# Altium schematic symbol library BatteryPSU-parts.SchLib: 30 symbols
Pins are listed as number, name and electrical type; pins without a type are passive.

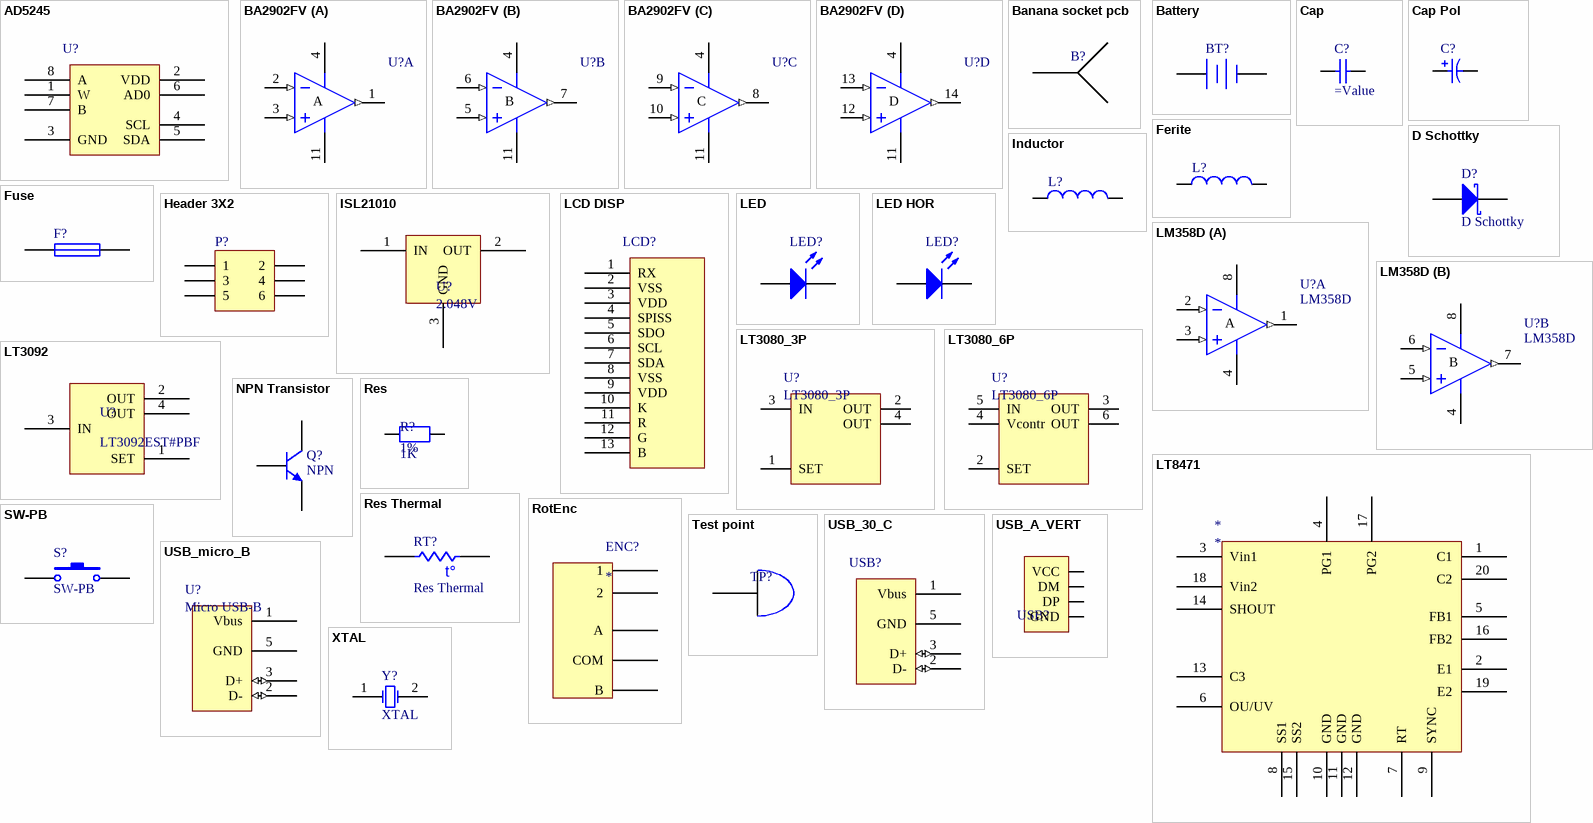
[diagram p0: symbols AD5245 to XTAL]

## AD5245
designator U?  (value not drawn)
DigPot; Manufacturer: Analog Devices Inc; Manufacturer Part Number: AD5245BRJZ50-RL7; Configuration: Potentiometer; Number of Circuits: 1; Number of Taps: 256; Resistance (Ohms): 50k; Interface: I²C; Memory Type: Volatile; Voltage - Supply: 2.7 V ~ 5.5 V; Tolerance: ±30%; Temperature Coefficient (Typ): 45 ppm/°C; Resistance - Wiper (Ohms) (Typ): 50; Supplier 1: Digi-Key; RoHS: RoHS Compliant; Category: Integrated Circuits (ICs); Stock 1: 2986; Pricing 1: 1=1.96, 10=1.766, 25=1.582, 100=1.4226, 250=1.26316, 500=1.10372, 1000=0.91364 (EUR); Packaging: Cut Tape (CT); Taper: Linear; Features: Selectable Address; Operating Temperature: -40°C ~ 125°C; Package / Case: SOT-23-8; Supplier Device Package: SOT-23-8; ComponentLink1URL: http://www.analog.com/media/en/technical-documentation/data-sheets/AD5245.pdf; ComponentLink1Description: http://www.analog.com/media/en/technical-documentation/data-sheets/AD5245.pdf; Supplier Part Number 1: AD5245BRJZ50-RL7CT-ND
footprint SOT-23-8
pins: 1 W, 2 VDD, 3 GND, 4 SCL, 5 SDA, 6 AD0, 7 B, 8 A

## BA2902FV
designator U?
Quad Low-Power Operational Amplifier; Manufacturer: Rohm Semiconductor; Manufacturer Part Number: BA2902FV-E2; Amplifier Type: General Purpose; Number of Circuits: 4; Slew Rate: 0.2 V/µs; Gain Bandwidth Product: 500kHz; Current - Input Bias: 20nA; Voltage - Input Offset: 2mV; Current - Supply: 700µA; Current - Output / Channel: 30mA; Voltage - Supply, Single/Dual (±): 3 V ~ 32 V, ±1.5 V ~ 16 V; Supplier 1: Digi-Key; RoHS: RoHS Compliant; Category: Integrated Circuits (ICs); Stock 1: 9768; Pricing 1: 1=0.87, 10=0.76, 25=0.6724, 100=0.586, 250=0.51012, 500=0.4342, 1000=0.34779 (EUR); Packaging: Cut Tape (CT); Output Type: -; -3db Bandwidth: -; Operating Temperature: -40°C ~ 125°C; Mounting Type: Surface Mount; Package / Case: 14-LSSOP (0.173", 4.40mm Width); Supplier Device Package: 14-SSOP; ComponentLink1URL: http://rohmfs.rohm.com/en/products/databook/datasheet/ic/amp_linear/opamp/ba10358f-e.pdf; ComponentLink1Description: http://rohmfs.rohm.com/en/products/databook/datasheet/ic/amp_linear/opamp/ba10358f-e.pdf; Supplier Part Number 1: BA2902FV-E2CT-ND
simulation model LM358 (SUBCKT)
footprint TSSOP14_N (TSOP, 14-Leads, Body 5x4.4mm, Pitch 0.65mm, IPC Medium Density)
part A pins: 1 OUT1 (out), 2 -IN1 (in), 3 +IN1 (in), 4 VCC (power), 11 VEE
part B pins: 4 VCC (power), 5 +IN2 (in), 6 -IN2 (in), 7 OUT2 (out), 11 VEE
part C pins: 4 VCC (power), 8 OUT3 (out), 9 -IN3 (in), 10 +IN3 (in), 11 VEE
part D pins: 4 VCC (power), 11 VEE, 12 +IN4 (in), 13 -IN4 (in), 14 OUT4 (out)
part A text: A
part B text: B
part C text: C
part D text: D

## Banana socket pcb
designator B?  (value not drawn)
2.54mm skrew terminal; Supplier 1: Farnell; Supplier Part Number 1: 1854508
footprint PCB Banana jack red (Cliff 4mm Panel Socket S16N-PC)
footprint PCB Banana jack black (Cliff 4mm Panel Socket S16N-PC)
pins: 1

## Battery
designator BT?  (value not drawn)
Multicell Battery; Manufacturer: MPD (Memory Protection Devices); Manufacturer Part Number: BK-18650-PC8; Battery Type, Function: Cylindrical, Holder; Style: Holder (Open); Battery Cell Size: 18650; Number of Cells: 4; Published: 24-Mar-1999; LatestRevisionDate: 17-Jul-2002; LatestRevisionNote: Re-released for DXP Platform.; PackageReference: BAT-2; Publisher: Altium Limited; PackageDescription: Battery; 2 Leads; Supplier 1: Digi-Key; RoHS: RoHS Compliant; Category: Battery Products; Stock 1: 771; Pricing 1: 1=5.87, 10=5.436, 100=4.8966, 500=4.18678, 1000=3.7136 (EUR); Battery Series: -; Mounting Type: PCB, Through Hole; Termination Style: PC Pin; Height Above Board: 0.848" (21.54mm); Operating Temperature: -; ComponentLink1URL: http://www.memoryprotectiondevices.com/datasheets/BK-18650-PC8-datasheet.pdf; ComponentLink1Description: http://www.memoryprotectiondevices.com/datasheets/BK-18650-PC8-datasheet.pdf; Supplier Part Number 1: BK-18650-PC8-ND
footprint Quad battery holder (Quad Li-Ion 18650)
pins: 1 +, 2 -

## Cap
designator C?
Capacitor
simulation model CAP (Capacitor)
signal-integrity model Cap
footprint 1210_N CAP (Chip Capacitor, Body 3.2x2.5mm, IPC Medium Density)
pins: 1, 2

## Cap Pol
designator C?
Polarized Capacitor
footprint CAP SMD (C) (Panasonic ZA SMD Electrolytic-hybrid cap (size C))
simulation model CAP (Capacitor)
signal-integrity model Cap Pol
footprint CAP SMD (F) (Panasonic ZA SMD Electrolytic-hybrid cap (size C))
pins: 1 "Positive", 2 "Negative"
1 alternate drawing of the same symbol

## D Schottky
designator D?
Schottky Diode; Manufacturer: Micro Commercial Co; Manufacturer Part Number: SK33A-TP; Voltage - DC Reverse (Vr) (Max): 30V; Current - Average Rectified (Io): 3A; Voltage - Forward (Vf) (Max) @ If: 500mV @ 3A; Speed: Fast Recovery =< 500ns, > 200mA (Io); Current - Reverse Leakage @ Vr: 500µA @ 30V; Capacitance @ Vr, F: 250pF @ 4V, 1MHz; Published: 8-Jun-2000; LatestRevisionDate: 17-Jul-2002; LatestRevisionNote: Re-released for DXP Platform.; PackageReference: SMB; Publisher: Altium Limited; PackageDescription: DO-214-AA/SMB; 2 C-Bend Leads; Body 5.3 x 3.6 mm, inc. leads (LxW); Code_JEDEC: DO-214-AA; Supplier 1: Digi-Key; RoHS: RoHS Compliant; Category: Discrete Semiconductor Products; Stock 1: 4384; Pricing 1: 1=0.57, 10=0.403, 25=0.3316, 100=0.2649, 250=0.19304, 500=0.15676, 1000=0.1205 (EUR); Packaging: Cut Tape (CT); Diode Type: Schottky; Reverse Recovery Time (trr): -; Mounting Type: Surface Mount; Package / Case: DO-214AC, SMA; Supplier Device Package: DO-214AC (HSMA); Operating Temperature - Junction: -50°C ~ 125°C; ComponentLink1URL: http://www.mccsemi.com/up_pdf/SK32A-SK310A(HSMA).PDF; ComponentLink1Description: http://www.mccsemi.com/up_pdf/SK32A-SK310A(HSMA).PDF; Supplier Part Number 1: SK33A-TPCT-ND
simulation model SKYDIODE (Diode)
signal-integrity model D Schottky
footprint DO-214AC, SMA (DO-214AC/SMA; 2 C-Bend Leads; Body 5.69 x 2.84mm, inc. leads (LxW))
pins: 1 A, 2 K

## Ferite
designator L?, comment 200 Ohm @ 100MHz  (value not drawn)
Ferrite Bead; Manufacturer: Laird-Signal Integrity Products; Manufacturer Part Number: LI0805G201R-10; Current Rating: 700mA; DC Resistance (DCR): 300 mOhm Max; Filter Type: Differential Mode - Single; Supplier 1: Digi-Key; RoHS: RoHS Compliant; Category: Filters; Stock 1: 42936; Pricing 1: 1=0.1, 10=0.065, 25=0.058, 50=0.0524, 100=0.0384, 250=0.02796, 500=0.02564, 1000=0.02213 (EUR); Packaging: Cut Tape (CT); Impedance @ Frequency: 200 Ohm @ 100MHz; Package / Case: 0805 (2012 Metric); Mounting Type: Surface Mount; Height (Max): 0.043" (1.10mm); Size / Dimension: 0.079" L x 0.049" W (2.00mm x 1.25mm); ComponentLink1URL: http://media.digikey.com/pdf/Data%20Sheets/Steward%20PDFs/FerriteEMI_ChipBeads_br.pdf; ComponentLink1Description: http://media.digikey.com/pdf/Data%20Sheets/Steward%20PDFs/FerriteEMI_ChipBeads_br.pdf; Supplier Part Number 1: 240-2549-1-ND
simulation model INDUCTOR (Inductor)
signal-integrity model Inductor
footprint 0805_N_FER (Chip Ferrite SMD, Body 2.0x1.25mm)
pins: 1, 2

## Fuse
designator F?, comment 5A  (value not drawn)
Resetable fuse, SMD; Manufacturer: Bel Fuse Inc; Manufacturer Part Number: 0ZCG0260FF2C; Voltage - Max: 6V; Current - Max: 100A; Current - Hold (Ih) (Max): 2.6A; R Min/Max: 0.015 ~ 0.047 Ohm; Time to Trip: 2.5s; Supplier 1: Digi-Key; RoHS: RoHS Compliant; Category: Circuit Protection; Stock 1: 8506; Pricing 1: 1=0.17, 10=0.162, 25=0.15, 100=0.1348, 250=0.12008, 500=0.10006, 1000=0.09483 (EUR); Packaging: Cut Tape (CT); Current - Trip (It): 5A; Package / Case: 1812 (4532 Metric), Concave; ComponentLink1URL: http://www.belfuse.com/pdfs/0ZCG.pdf; ComponentLink1Description: http://www.belfuse.com/pdfs/0ZCG.pdf; Supplier Part Number 1: 507-1778-1-ND
simulation model FUSE (Spice Subcircuit)
footprint 2920_N FUSE (Resetable fuse, SMD)
footprint 1812_N_FUSE (PTC Fuse)
pins: 1, 2

## Header 3X2
designator P?  (value not drawn)
Header, 3-Pin, Dual row; Manufacturer: FCI; Manufacturer Part Number: 95278-101A06LF; Connector Type: Header, Unshrouded; Number of Positions: 6; Number of Positions Loaded: All; Pitch: 0.100" (2.54mm); Supplier 1: Digi-Key; RoHS: RoHS Compliant; Category: Connectors, Interconnects; Stock 1: 6353; Pricing 1: 1=1.11, 10=0.971, 25=0.914, 100=0.8381 (EUR); Packaging: Cut Tape (CT); Contact Type: Male Pin; Number of Rows: 2; Row Spacing: 0.100" (2.54mm); Contact Mating Length: 0.232" (5.90mm); Mounting Type: Surface Mount; Termination: Solder; Fastening Type: -; Features: -; Contact Finish: Gold, GXT™; Contact Finish Thickness: 30µin (0.76µm); Color: Black; ComponentLink1URL: http://portal.fciconnect.com/Comergent//fci/drawing/95278.pdf; ComponentLink1Description: http://portal.fciconnect.com/Comergent//fci/drawing/95278.pdf; Supplier Part Number 1: 609-3487-1-ND
signal-integrity model Connector
footprint HDR2X3 SMD
pins: 1, 2, 3, 4, 5, 6

## Inductor
designator L?
SMD Inductor; Manufacturer: Bourns Inc.; Manufacturer Part Number: SRR1005-100M; Type: Wirewound; Material - Core: Ferrite; Inductance: 10µH; Tolerance: ±20%; Current Rating: 2A; Current - Saturation: 3A; Shielding: Shielded; DC Resistance (DCR): 65 mOhm Max; Q @ Freq: 48 @ 2.52MHz; Frequency - Self Resonant: 30MHz; Frequency - Test: 1kHz; Supplier 1: Digi-Key; RoHS: RoHS Compliant; Category: Inductors, Coils, Chokes; Stock 1: 2781; Pricing 1: 1=0.88, 10=0.826, 25=0.7708, 50=0.6606, 100=0.6276, 250=0.57256 (EUR); Packaging: Cut Tape (CT); Operating Temperature: -40°C ~ 125°C; Mounting Type: Surface Mount; Package / Case: Nonstandard; Size / Dimension: 0.500" L x 0.394" W (12.70mm x 10.00mm); Height - Seated (Max): 0.205" (5.20mm); Supplier Device Package: -; ComponentLink1URL: http://www.bourns.com/data/global/pdfs/SRR1005.pdf; ComponentLink1Description: http://www.bourns.com/data/global/pdfs/SRR1005.pdf; Supplier Part Number 1: SRR1005-100MCT-ND
simulation model INDUCTOR (Inductor)
signal-integrity model Inductor
footprint CAP SMD (C) (Panasonic ZA SMD Electrolytic-hybrid cap (size C))
footprint CAP SMD (F) (Panasonic ZA SMD Electrolytic-hybrid cap (size C))
pins: 1, 2

## ISL21010
designator U?, comment 2.048V
Voltage reference; Manufacturer: Intersil; Manufacturer Part Number: ISL21010CFH320Z-TK; Reference Type: Series; Output Type: Fixed; Current - Output: 25mA; Tolerance: ±0.2%; Temperature Coefficient: 50ppm/°C; Noise - 0.1Hz to 10Hz: 58µVp-p; Noise - 10Hz to 10kHz: 26µVrms; Voltage - Input: 2.2 V ~ 5.5 V; Current - Supply: 80µA; Supplier 1: Digi-Key; RoHS: RoHS Compliant; Category: Integrated Circuits (ICs); Stock 1: 329; Pricing 1: 1=1.81, 25=1.2808, 100=1.0892 (EUR); Packaging: Cut Tape (CT); Voltage - Output (Min/Fixed): 2.048V; Voltage - Output (Max): -; Current - Cathode: -; Operating Temperature: -40°C ~ 125°C (TA); Mounting Type: Surface Mount; Package / Case: TO-236-3, SC-59, SOT-23-3; Supplier Device Package: SOT-23-3; ComponentLink1URL: http://www.intersil.com/content/dam/Intersil/documents/fn78/fn7896.pdf; ComponentLink1Description: http://www.intersil.com/content/dam/Intersil/documents/fn78/fn7896.pdf; Supplier Part Number 1: ISL21010CFH320Z-TKCT-ND
footprint SOT-23_N (SOT23, 3-Leads, Body 2.9x1.3mm, Pitch 0.95mm, Lead Span 2.5mm, IPC Medium Density)
pins: 1 IN, 2 OUT, 3 GND

## LCD DISP
designator LCD?
2x16 CHAR DISP, RGB; Manufacturer: Sullins Connector Solutions; Manufacturer Part Number: SBH11-NBPC-D07-SM-BK; Connector Type: Header, Shrouded; Number of Positions: 14; Number of Positions Loaded: All; Pitch: 0.100" (2.54mm); Supplier 1: Digi-Key; RoHS: RoHS Compliant; Category: Connectors, Interconnects; Stock 1: 5015; Pricing 1: 1=1.47, 10=1.22, 25=1.1296, 50=1.0166, 100=0.9036, 250=0.79068, 500=0.72292, 1000=0.65514, 2500=0.58736 (EUR); Packaging: Tube; Contact Type: Male Pin; Number of Rows: 2; Row Spacing: 0.100" (2.54mm); Contact Mating Length: -; Mounting Type: Surface Mount; Termination: Solder; Fastening Type: -; Features: Polarizing Key; Contact Finish: Gold; Contact Finish Thickness: Flash; Color: Black; ComponentLink1URL: http://sullinscorp.com/catalogs/145_PAGE118_.100_SBH11_SERIES_MALE_BOX_HDR_ST_RA_SMT.pdf; ComponentLink1Description: http://sullinscorp.com/catalogs/145_PAGE118_.100_SBH11_SERIES_MALE_BOX_HDR_ST_RA_SMT.pdf; Supplier Part Number 1: S9186-ND
footprint 13P Flatflex (Molex 13p SMD flatflex)
footprint 14P header (14P Dual in line header SMD)
pins: 1 RX, 2 VSS, 3 VDD, 4 SPISS, 5 SDO, 6 SCL, 7 SDA, 8 VSS, 9 VDD, 10 K, 11 R, 12 G, 13 B

## LED
designator LED?  (value not drawn)
Typical RED, GREEN, YELLOW, AMBER; Manufacturer: OSRAM Opto Semiconductors Inc; Manufacturer Part Number: LG R971-KN-1; Wavelength - Dominant: 570nm; Wavelength - Peak: 572nm; Millicandela Rating: 26.05mcd; Voltage - Forward (Vf) (Typ): 2.2V; Current - Test: 20mA; Viewing Angle: 160°; Lens Transparency: Diffused; Lens Color: White; Lens Style/Size: Rectangle with Flat Top, 1.30mm x 1.25mm; Supplier 1: Digi-Key; RoHS: RoHS Compliant; Category: Optoelectronics; Stock 1: 152991; Pricing 1: 1=0.1, 10=0.087, 100=0.0691, 250=0.06048, 500=0.05526 (EUR); Packaging: Cut Tape (CT); Color: Green; Package / Case: 0805 (2012 Metric); Supplier Device Package: *; Size / Dimension: 2.00mm L x 1.25mm W; Height (Max): 0.90mm; Mounting Type: Surface Mount; ComponentLink1URL: http://www.osram-os.com/Graphics/XPic9/00078860_0.pdf; ComponentLink1Description: http://www.osram-os.com/Graphics/XPic9/00078860_0.pdf; Supplier Part Number 1: 475-1410-1-ND
simulation model LED2 (Diode)
footprint 0805_N_LED (Chip LED, Body 2.0x1.25mm)
pins: 1 A, 2 K

## LED HOR
designator LED?
Horisontal LED; Manufacturer: Kingbright; Manufacturer Part Number: APA3010SECK-GX; Color: Orange; Wavelength - Dominant: 601nm; Wavelength - Peak: 610nm; Millicandela Rating: 250mcd; Voltage - Forward (Vf) (Typ): 2.1V; Current - Test: 20mA; Viewing Angle: 120°; Lens Transparency: Clear; Lens Color: Colorless; Lens Style/Size: Rectangle with Domed Top, 2.00mm x 1.00mm; Supplier 1: Digi-Key; RoHS: RoHS Compliant; Category: Optoelectronics; Stock 1: 1960; Pricing 1: 1=0.31, 10=0.236, 25=0.1888, 100=0.1704, 250=0.15732, 500=0.1416 (EUR); Packaging: Cut Tape (CT); Package / Case: 2-SMD, No Lead; Supplier Device Package: 2-SMD; Size / Dimension: 3.00mm L x 2.00mm W; Height (Max): 1.00mm; Mounting Type: Surface Mount, Right Angle; ComponentLink1URL: http://www.kingbrightusa.com/images/catalog/SPEC/APA3010SECK-GX.pdf; ComponentLink1Description: http://www.kingbrightusa.com/images/catalog/SPEC/APA3010SECK-GX.pdf; Supplier Part Number 1: 754-1842-1-ND
simulation model LED2 (Diode)
footprint LED ANGLE SMD GREEN (Knightbright APA3010 - series)
footprint LED ANGLE SMD YELLOW (Knightbright APA3010 - series)
pins: 1 A, 2 K

## LM358D
designator U?
Dual Low-Power Operational Amplifier; Published: 24-Aug-2001; LatestRevisionDate: 13-Apr-2006; LatestRevisionNote: IPC-7351 Footprint Added.; PackageVersion: Dec-2002; PackageReference: SO8; Publisher: Altium Limited; PackageDescription: 8-Pin Small Outline Integrated Circuit 1.27 mm Pitch; Code_JEDEC: MS-012-AA; Code_IPC: SOIC127P600-8; ComponentLink1Description: Manufacturer Link; ComponentLink1URL: http://www.st.com/; ComponentLink2Description: Datasheet; ComponentLink2URL: http://www.st.com/stonline/products/literature/ds/2163/lm358.pdf; Supplier 1: Digi-Key; Supplier Part Number 1: 296-27467-1-ND
footprint SOIC8_N (SOIC, 8-Leads, Body 4.9x3.9mm, Pitch 1.27mm, IPC Medium Density)
3D model SO8 (8-Pin Small Outline Integrated Circuit 1.27 mm Pitch)
simulation model LM358 (SUBCKT)
pins on every part: 4 V- (power), 8 V+ (power)
part A pins: 1 OUT (out), 2 IN- (in), 3 IN+ (in)
part B pins: 5 IN+ (in), 6 IN- (in), 7 OUT (out)
part A text: A
part B text: B

## LT3080_3P
designator U?
LT3080 LDO regulator; Manufacturer: Linear Technology; Manufacturer Part Number: LT3080EST#TRPBF; Regulator Topology: Positive Adjustable; Voltage - Output: 0 V ~ 36 V; Current - Output: 1.1A; Voltage - Dropout (Typical): 1.35V @ 1.1A; Number of Regulators: 1; Voltage - Input: 1.2 V ~ 36 V; Supplier 1: Digi-Key; RoHS: RoHS Compliant; Category: Integrated Circuits (ICs); Stock 1: 1918; Pricing 1: 1=4.49, 25=4.01, 100=3.609 (EUR); Packaging: Cut Tape (CT); Current - Limit (Min): 1.1A; Operating Temperature: -40°C ~ 125°C; Mounting Type: Surface Mount; Package / Case: TO-261-4, TO-261AA; Supplier Device Package: SOT-223; ComponentLink1URL: http://www.linear.com/docs/25276; ComponentLink1Description: http://www.linear.com/docs/25276; Supplier Part Number 1: LT3080EST#TRPBFCT-ND
footprint SOT223_N (SOT223, 4-Leads, Body 6.5x3.5mm, Pitch 2.3mm, Lead Span 7mm, IPC Medium Density)
pins: 1 SET "Voltage set pin", 2 OUT "Power out", 3 IN "Power input", 4 OUT "Power out"

## LT3080_6P
designator U?
LT3080 LDO regulator; Manufacturer: Linear Technology; Manufacturer Part Number: LT3080EQ#PBF; Regulator Topology: Positive Adjustable; Voltage - Output: 0 V ~ 36 V; Current - Output: 1.1A; Voltage - Dropout (Typical): 1.35V @ 1.1A; Number of Regulators: 1; Voltage - Input: 1.2 V ~ 36 V; Supplier 1: Digi-Key; RoHS: RoHS Compliant; Category: Integrated Circuits (ICs); Stock 1: 1598; Pricing 1: 1=4.68, 25=3.3412, 100=2.8409 (EUR); Packaging: Tube; Current - Limit (Min): 1.1A; Operating Temperature: -40°C ~ 125°C; Mounting Type: Surface Mount; Package / Case: TO-263-6, D²Pak (5 Leads + Tab), TO-263BA; Supplier Device Package: 5-DDPAK; ComponentLink1URL: http://www.linear.com/docs/25276; ComponentLink1Description: http://www.linear.com/docs/25276; Supplier Part Number 1: LT3080EQ#PBF-ND
footprint DD-PAK-5_N_HEATSINK
pins: 2 SET "Voltage set pin", 3 OUT "Power out", 4 Vcontr "Power input", 5 IN "Power input", 6 OUT "Power out"

## LT3092
designator U?, comment LT3092EST#PBF
Current source; Manufacturer: Linear Technology; Accuracy: ±1%; Voltage - Input: 1.2 V ~ 40 V; Current - Output: 200mA; Supplier 1: Digi-Key; Manufacturer Part Number: LT3092EST#PBF; RoHS: RoHS Compliant; Category: Integrated Circuits (ICs); Stock 1: 3473; Pricing 1: 1=3.98, 25=2.66, 100=2.2664 (EUR); Packaging: Tube; Function: Current Source; Sensing Method: -; Operating Temperature: -40°C ~ 125°C; Mounting Type: Surface Mount; Package / Case: TO-261-4, TO-261AA; Supplier Device Package: SOT-223; ComponentLink1URL: http://www.linear.com/docs/27892; ComponentLink1Description: http://www.linear.com/docs/27892; Supplier Part Number 1: LT3092EST#PBF-ND
footprint SOT223_N (SOT223, 4-Leads, Body 6.5x3.5mm, Pitch 2.3mm, Lead Span 7mm, IPC Medium Density)
pins: 1 SET, 2 OUT, 3 IN, 4 OUT

## LT8471
designator *
DC/DC conv; Manufacturer: Linear Technology; Manufacturer Part Number: LT8471IFE#PBF; Function: Step-Up, Step-Down, Step-Up/Step-Down; Output Configuration: Positive or Negative; Topology: Buck, Boost, Flyback, SEPIC; Output Type: Adjustable; Number of Outputs: 2; Voltage - Input (Min): 2.6V; Voltage - Input (Max): 50V; Voltage - Output (Max): 50V (Switch); Current - Output: 1.35A (Switch), 2.1A (Switch); Frequency - Switching: 100kHz ~ 2MHz; Synchronous Rectifier: No; Supplier 1: Digi-Key; RoHS: RoHS Compliant; Category: Integrated Circuits (ICs); Stock 1: 132; Pricing 1: 1=9.39, 25=6.2776, 100=5.3412 (EUR); Packaging: Tube; Voltage - Output (Min/Fixed): 2.6V; Operating Temperature: -40°C ~ 125°C (TJ); Mounting Type: Surface Mount; Package / Case: 20-TSSOP (0.173", 4.40mm Width) Exposed Pad; Supplier Device Package: 20-TSSOP; ComponentLink1URL: http://www.linear.com/docs/44404; ComponentLink1Description: http://www.linear.com/docs/44404; Supplier Part Number 1: LT8471IFE#PBF-ND
footprint TSSOP20_N (TSOP, 20-Leads, Body 6.5x4.4mm, Pitch 0.65mm, IPC Medium Density)
pins: 1 C1, 2 E1, 3 Vin1, 4 PG1, 5 FB1, 6 OU/UV, 7 RT, 8 SS1, 9 SYNC, 10 GND, 11 GND, 12 GND, 13 C3, 14 SHOUT, 15 SS2, 16 FB2, 17 PG2, 18 Vin2, 19 E2, 20 C2

## NPN Transistor
designator Q?, comment NPN
NPN General Purpose Amplifier; Manufacturer: Micro Commercial Co; Manufacturer Part Number: MMBT3904-TP; Current - Collector (Ic) (Max): 200mA; Voltage - Collector Emitter Breakdown (Max): 40V; Vce Saturation (Max) @ Ib, Ic: 300mV @ 5mA, 50mA; DC Current Gain (hFE) (Min) @ Ic, Vce: 100 @ 10mA, 1V; Power - Max: 350mW; Frequency - Transition: 300MHz; Supplier 1: Digi-Key; RoHS: RoHS Compliant; Category: Discrete Semiconductor Products; Stock 1: 108373; Pricing 1: 1=0.14, 10=0.128, 25=0.1168, 100=0.0841, 250=0.04956, 500=0.04112, 1000=0.02805 (EUR); Packaging: Cut Tape (CT); Transistor Type: NPN; Current - Collector Cutoff (Max): -; Mounting Type: Surface Mount; Package / Case: TO-236-3, SC-59, SOT-23-3; Supplier Device Package: SOT-23; ComponentLink1URL: http://www.mccsemi.com/up_pdf/MMBT3904(SOT-23).pdf; ComponentLink1Description: http://www.mccsemi.com/up_pdf/MMBT3904(SOT-23).pdf; Supplier Part Number 1: MMBT3904TPMSCT-ND
simulation model 2N3904 (NPN)
signal-integrity model 2N3904
footprint SOT-23_N (SOT23, 3-Leads, Body 2.9x1.3mm, Pitch 0.95mm, Lead Span 2.5mm, IPC Medium Density)
pins: 1 B, 2 E, 3 C

## Res
designator R?, comment 1K  Tolerance: 1%
Resistor; Value: 1K
simulation model RESISTOR (Resistor)
signal-integrity model Res
footprint 0805_N_RES (Chip Resistor, Body 2.0x1.25mm)
pins: 1, 2

## Res Thermal
designator RT?
Thermistor; Manufacturer: Harwin Inc; Manufacturer Part Number: M20-9990246; Connector Type: Header, Unshrouded, Breakaway; Number of Positions: 2; Number of Positions Loaded: All; Pitch: 0.100" (2.54mm); Published: 24-Mar-1999; LatestRevisionDate: 29-May-2009; LatestRevisionNote: IPC-7351 Footprint Added.; PackageVersion: Mar-2003; PackageReference: 6-0805; Publisher: Altium Limited; PackageDescription: Chip Resistor 0805 Case Size; Code_IPC: RESC2012; Supplier 1: Digi-Key; RoHS: RoHS Compliant; Category: Connectors, Interconnects; Stock 1: 46180; Pricing 1: 1=0.11, 10=0.1, 25=0.0744, 50=0.0636, 100=0.0614, 250=0.05296, 500=0.05082, 1000=0.04448, 2500=0.04024 (EUR); Packaging: Bulk; Contact Type: Male Pin; Number of Rows: 1; Row Spacing: -; Contact Mating Length: 0.240" (6.10mm); Mounting Type: Through Hole; Termination: Solder; Fastening Type: -; Features: -; Contact Finish: Tin; Contact Finish Thickness: -; Color: Black; ComponentLink1URL: http://cdn.harwin.com/pdfs/M20-999.pdf; ComponentLink1Description: http://cdn.harwin.com/pdfs/M20-999.pdf; Supplier Part Number 1: 952-2262-ND; Supplier 2: Digi-Key; Supplier Part Number 2: BC2464-ND
footprint HDR1X2 (Connector; Header; 2 Position)
pins: 1, 2
text: t°

## RotEnc
designator ENC?
RotaryEncoder; Manufacturer: Bourns Inc.; Manufacturer Part Number: PEC09-2220F-S0012; Encoder Type: Mechanical; Output Type: Quadrature (Incremental); Pulses per Revolution: 12; Actuator Type: 6mm Dia Flatted End; Detent: Yes; Rotational Life (Cycles Min): 30K; Supplier 1: Digi-Key; RoHS: RoHS Compliant; Category: Sensors, Transducers; Stock 1: 620; Pricing 1: 1=3.29, 10=3.064, 25=2.8936, 50=2.5534, 100=2.0993, 250=2.04264, 500=1.92914, 1000=1.81567 (EUR); Voltage - Supply: -; Built in Switch: Yes; Mounting Type: Panel, PCB Through Hole; Orientation: Right Angle; Termination Style: PC Pin; ComponentLink1URL: http://www.bourns.com/data/global/pdfs/PEC09.pdf; ComponentLink1Description: http://www.bourns.com/data/global/pdfs/PEC09.pdf; Supplier Part Number 1: PEC09-2220F-S0012-ND
footprint Bourns rotary encoder (PEC09 Incremental encoder)
pins: A, B, C COM, D 1, E 2

## SW-PB
designator S?
Switch; Manufacturer: C&K Components; Manufacturer Part Number: PTS645SK50SMTR92 LFS; Circuit: SPST-NO; Switch Function: Off-Mom; Contact Rating @ Voltage: 0.05A @ 12VDC; Actuator Type: Standard; Actuator Height off PCB, from Pins: 5.00mm; Actuator Orientation: Top Actuated; Outline: 6.00mm x 6.00mm; Illumination: Non-Illuminated; Operating Force: 260gf; Actuator Material: Polyamide (PA66), Nylon 6/6; Mechanical Life: 100,000 Cycles; Published: 24-Mar-1999; LatestRevisionDate: 17-Jul-2002; LatestRevisionNote: Re-released for DXP Platform.; PackageReference: SPST-2; Publisher: Altium Limited; PackageDescription: Switch; 2 Leads; RoHS: RoHS Compliant; Category: Switches; Packaging: Cut Tape (CT); Mounting Type: Surface Mount; Termination Style: Gull Wing; Illumination Voltage (Nominal): -; Illumination Type, Color: -; Ingress Protection: -; Features: -; Switch Travel: -; Operating Temperature: -20°C ~ 60°C; ComponentLink1URL: http://www.ck-components.com/14409/pts645_25apr13.pdf/; ComponentLink1Description: http://www.ck-components.com/14409/pts645_25apr13.pdf/; Supplier 1: Digi-Key; Stock 1: 26870; Pricing 1: 1=0.75, 10=0.699, 25=0.6288, 50=0.5592, 100=0.5358, 250=0.48924, 500=0.46594, 1000=0.3844 (EUR); ComponentLink2URL: http://industrial.panasonic.com/www-cgi/jvcr13pz.cgi?E+PZ+2+ATK0020+0+4+WW; ComponentLink2Description: http://industrial.panasonic.com/www-cgi/jvcr13pz.cgi?E+PZ+2+ATK0020+0+4+WW; Supplier Part Number 1: P16767CT-ND
footprint SW TACTILE (Panasonic EVQ-P7J01P SMD horisontal)
pins: 1, 2

## Test point
designator TP?, comment Test-point  (value not drawn)
footprint Test point
pins: 1 TP

## USB_30_C
designator USB?
USB 3.0 Type C; Supplier 1: Digi-Key; Supplier Part Number 1: ED1391CT-ND
pins: 1 Vbus (power), 2 D- (io), 3 D+ (io), 5 GND

## USB_A_VERT
designator USB?
USB A Vertikal; Manufacturer: Assmann WSW Components; Manufacturer Part Number: A-USB/2-A-E-R; Connector Type: USB - A; Number of Contacts: 4; Gender: Receptacle; Specifications: USB 2.0; Supplier 1: Digi-Key; RoHS: RoHS Compliant; Category: Connectors, Interconnects; Stock 1: 0; Pricing 1: 1=1.26, 10=1.108, 25=1.0432, 50=0.9998, 100=0.9563, 250=0.86936, 500=0.78242, 1000=0.69548, 2500=0.63028 (EUR); Packaging: Bulk; Mounting Type: Through Hole, Right Angle, Vertical; Features: Board Lock; Ingress Protection: -; ComponentLink1URL: http://www.assmann.us/specs/A-USB_2-A-E-R.pdf; ComponentLink1Description: http://www.assmann.us/specs/A-USB_2-A-E-R.pdf; Supplier Part Number 1: AE10400-ND
footprint USB A VERT (USB TYPE A RIGHT ANGLE VERTICAL)
pins: 1 VCC, 2 DM, 3 DP, 4 GND

## USB_micro_B
designator U?, comment Micro USB-B
Horisontal micro usb b; Manufacturer: FCI; Manufacturer Part Number: 10118194-0001LF; Connector Type: USB - micro B; Number of Contacts: 5; Gender: Receptacle; Specifications: USB 2.0; Supplier 1: Digi-Key; RoHS: RoHS Compliant; Category: Connectors, Interconnects; Stock 1: 4951; Pricing 1: 1=0.46, 10=0.437, 25=0.3744, 100=0.3058, 250=0.27456, 500=0.2621 (EUR); Packaging: Cut Tape (CT); Mounting Type: Surface Mount, Right Angle, Horizontal; Features: Shielded, Solder Retention; Ingress Protection: -; ComponentLink1URL: http://portal.fciconnect.com/Comergent//fci/drawing/10118194.pdf; ComponentLink1Description: http://portal.fciconnect.com/Comergent//fci/drawing/10118194.pdf; Supplier Part Number 1: 609-4618-1-ND
footprint USB_TYPEB_SMD (USB TYPE B SMD MICRO)
pins: 1 Vbus (power), 2 D- (io), 3 D+ (io), 5 GND

## XTAL
designator Y?
Crystal Oscillator; Manufacturer: ECS Inc; Manufacturer Part Number: ECS-80-18-20BQ-DS; Frequency: 8MHz; Frequency Stability: ±100ppm; Frequency Tolerance: ±30ppm; Load Capacitance: 18pF; ESR (Equivalent Series Resistance): 60 Ohm; Operating Mode: Fundamental; Published: 8-Jun-2000; LatestRevisionDate: 17-Jul-2002; LatestRevisionNote: Re-released for DXP Platform.; PackageReference: R38; Publisher: Altium Limited; PackageDescription: Crystal, Thru-Hole; 2 Leads; Body 3.1 x 8.2 mm (Dia.xH); Supplier 1: Digi-Key; RoHS: RoHS Compliant; Category: Crystals and Oscillators; Stock 1: 1735; Pricing 1: 1=1.93, 10=1.672, 50=1.466, 100=1.1573, 500=0.97726 (EUR); Packaging: Cut Tape (CT); Type: MHz Crystal; Operating Temperature: -40°C ~ 125°C; Ratings: AEC-Q200; Mounting Type: Surface Mount; Package / Case: 4-SMD, No Lead (DFN, LCC); Size / Dimension: 0.276" L x 0.197" W (7.00mm x 5.00mm); Height: 0.051" (1.30mm); ComponentLink1URL: http://www.ecsxtal.com/store/pdf/CSM-8Q.pdf; ComponentLink1Description: http://www.ecsxtal.com/store/pdf/CSM-8Q.pdf; Supplier Part Number 1: XC2015CT-ND
simulation model XTAL (Spice Subcircuit)
footprint XTAL SMD (CSM-8Q SMD crystal)
pins: 1 OSC1, 2 OSC2